# EAGLE library part MCP2515(MCP2510) (library SW_Communications)
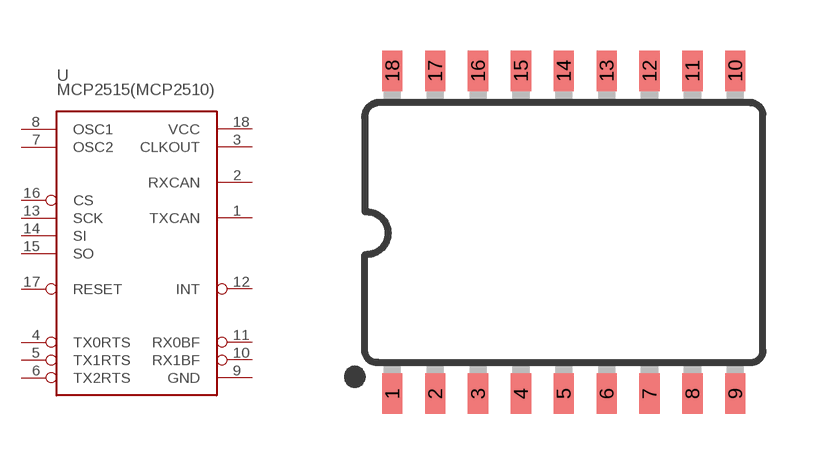
[diagram p3: symbol with the pads of SO18W; footprint SO18W]

Designator prefix U

## MCP2515(MCP2510)SO (CATEGORY: Communications; DESCRIPTION: IC CAN CONTROLLER W/SPI 18SOIC; MFGS: Microchip Technology; MPNS: MCP2515T-I/SO; PACKAGE: SOIC-18-W; PART_NUMBER: MCP2515T-I/SO; SW_PART_NUMBER: SW0000860), MCP2515(MCP2510)MCP2510SO (CATEGORY: Communications; DESCRIPTION: IC CAN CONTROLLER W/SPI 18-SOIC; MFGS: Microchip Technology; MPNS: MCP2510T-I/SO; PACKAGE: SOIC-18-W; PART_NUMBER: MCP2510T-I/SO; SW_PART_NUMBER: SW0000861)  [SO18W]
1  TXCAN  out
2  RXCAN  in
3  CLKOUT  out
4  TX0RTS  in
5  TX1RTS  in
6  TX2RTS  in
7  OSC2  out
8  OSC1  in
9  GND  pwr
10  RX1BF  out
11  RX0BF  out
12  INT  out
13  SCK  in
14  SI  in
15  SO  out
16  CS  in
17  RESET  in
18  VCC  pwr

## Footprint SO18W (pad centres in mm)
Small Outline Wide Plastic Gull Wing SOIC, 0.3 inch width
smd 0.6 x 1.2: 1 -5.08,-4.788; 2 -3.81,-4.788; 3 -2.54,-4.788; 4 -1.27,-4.788; 5 0,-4.788; 6 1.27,-4.788; 7 2.54,-4.788; 8 3.81,-4.788; 9 5.08,-4.788; 10 5.08,4.788; 11 3.81,4.788; 12 2.54,4.788; 13 1.27,4.788; 14 0,4.788; 15 -1.27,4.788; 16 -2.54,4.788; 17 -3.81,4.788; 18 -5.08,4.788